# Altium schematic symbol library TSC2007IPW.SchLib: 1 symbol
Pins are listed as number, name and electrical type; pins without a type are passive.

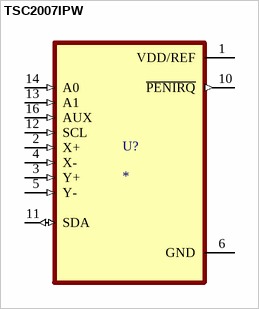
[diagram p0: symbol TSC2007IPW]

## TSC2007IPW
designator U?
12-Bit, nanopower, 4-wire micro touch screen controller &nbsp; 16-TSSOP -40 to 85; MP: TSC2007IPW; MF: Texas Instruments; Digi-Key_Part_Number: 296-42398-2-ND; Purchase-URL: https://pricing.snapeda.com/search/part/TSC2007IPW/?ref=eda; Package: TSSOP-16 Texas Instruments; Value: *; SnapEDA_Link: https://www.snapeda.com/parts/TSC2007IPW/Texas%20Instruments/view-part/291616/?ref=snap; Check_prices: https://www.snapeda.com/parts/TSC2007IPW/Texas%20Instruments/view-part/291616/?ref=eda
footprint SOP65P640X120-16N
pins: 1 VDD/REF (power), 2 X+ (in), 3 Y+ (in), 4 X- (in), 5 Y- (in), 6 GND (power), 10 ~{PENIRQ} (out), 11 SDA (io), 12 SCL (in), 13 A1 (in), 14 A0 (in), 16 AUX (in)